# EAGLE library part LM3478 (library nixiemisc)
Low-Side N-Channel Controller High Efficiency Switching Regulator
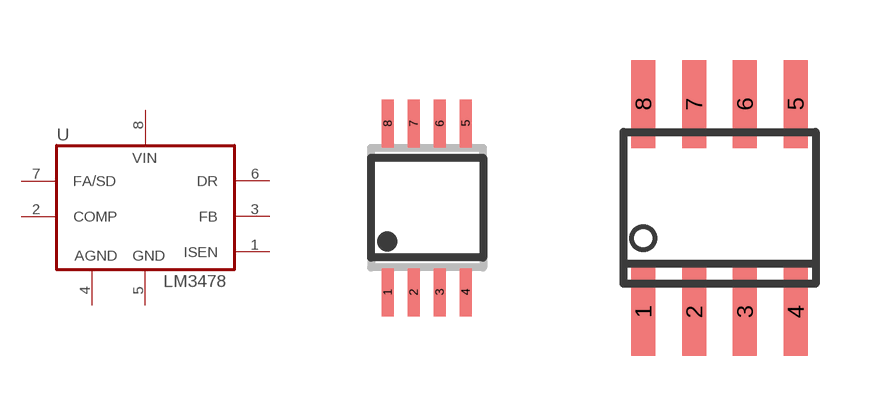
[diagram p8: symbol with the pads of MSOP08; footprints MSOP08, SOIC8]

Designator prefix U

## LM3478  [MSOP08]
1  ISEN  in
2  COMP  in
3  FB  in
4  AGND  pwr
5  PGND  pwr
6  DR  out
7  FA/SD  in
8  VIN  pwr

## LM3478SOIC8  [SOIC8]
Pads as for MSOP08

## Footprint MSOP08 (pad centres in mm)
Mini Small Outline Package
smd 0.3 x 1.2: 1 -0.976,-2.113; 2 -0.326,-2.113; 3 0.324,-2.113; 4 0.974,-2.113; 5 0.974,2.112; 6 0.324,2.112; 7 -0.326,2.112; 8 -0.976,2.112

## Footprint SOIC8 (pad centres in mm)
Small Outline IC
smd 0.6 x 2.2: 1 -1.905,-2.6; 2 -0.635,-2.6; 3 0.635,-2.6; 4 1.905,-2.6; 5 1.905,2.6; 6 0.635,2.6; 7 -0.635,2.6; 8 -1.905,2.6